# Altium footprint library PcbLib.PcbLib: 15 footprints
Each footprint in its own frame and in the unit in brackets; x right, y up, seen from the top. Pads: shape width x height; smd on the part's side, far side on the other; paste and mask are expansions set on the pad; w line width, h text height; cw(c..) or ccw(c..) is an arc to the next point about the centre after c.
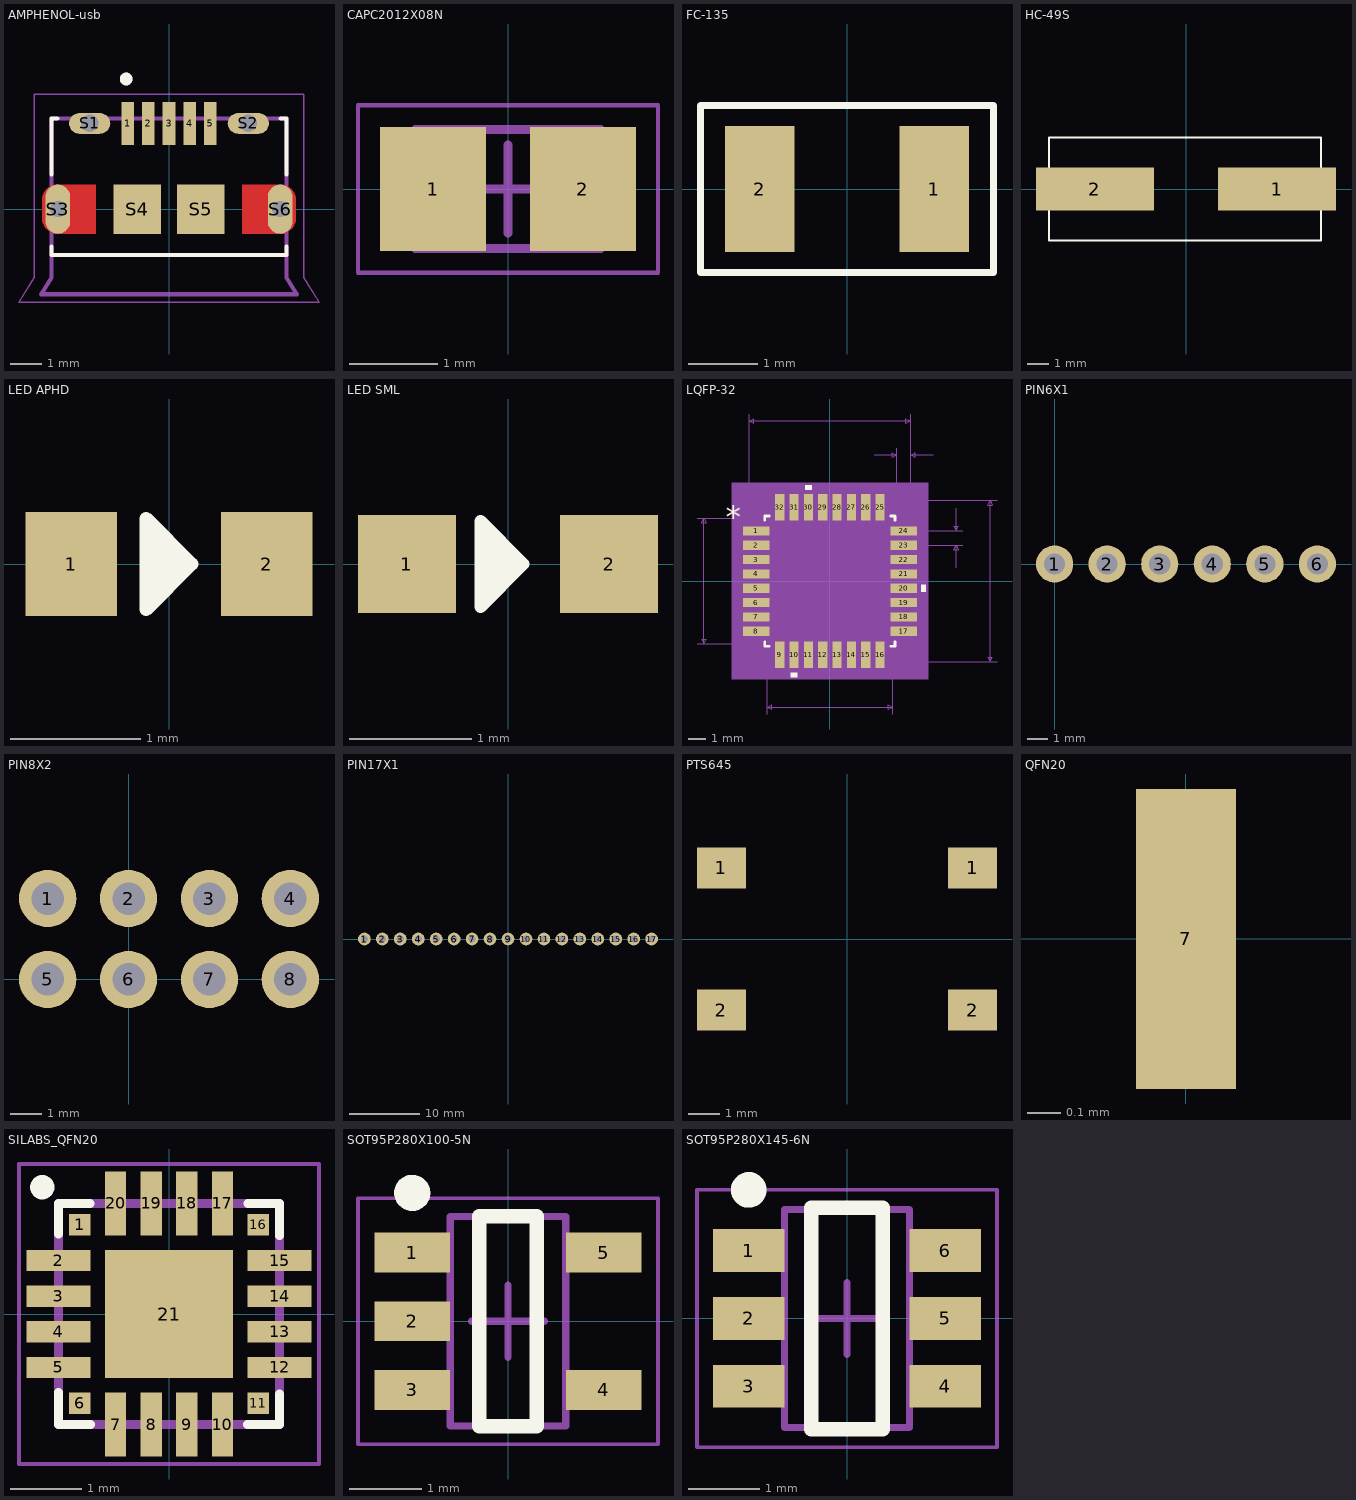
[diagram p0: the footprints below, top view; thin cyan lines are the x and y axes]

## AMPHENOL-usb [mm]
pads (11):
  rect 0.4x1.35 smd: 1(-1.3,2.7) 2(-0.65,2.7) 3(0,2.7) 4(0.65,2.7) 5(1.3,2.7)
  oval 1.3x0.65 hole 0.55: S1(-2.5,2.7) S2(2.5,2.7)
  oval 0.775x1.55 hole 0.5: S3(-3.5,0) S6(3.5,0)
  rect 1.5x1.55 smd: S4(-1,0) S5(1,0)
Top Layer:
  region: -3.5,0.775 -3.5,0.575 -3.493,0.575 -3.48,0.574 -3.467,0.573 -3.454,0.571 -3.442,0.568 -3.429,0.565 -3.417,0.561 -3.404,0.556 -3.392,0.551 -3.381,0.545 -3.369,0.538 -3.358,0.531 -3.348,0.523 -3.338,0.515 -3.328,0.506 -3.319,0.497 -3.31,0.487 -3.302,0.477 -3.294,0.467 -3.287,0.456 -3.28,0.444 -3.274,0.433 -3.269,0.421 -3.264,0.408 -3.26,0.396 -3.257,0.383 -3.254,0.371 -3.252,0.358 -3.251,0.345 -3.25,0.332 -3.25,0.325 -3.25,-0.325 -3.25,-0.332 -3.251,-0.345 -3.252,-0.358 -3.254,-0.371 -3.257,-0.383 -3.26,-0.396 -3.264,-0.408 -3.269,-0.421 -3.274,-0.433 -3.28,-0.444 -3.287,-0.456 -3.294,-0.467 -3.302,-0.477 -3.31,-0.487 -3.319,-0.497 -3.328,-0.506 -3.338,-0.515 -3.348,-0.523 -3.358,-0.531 -3.369,-0.538 -3.381,-0.545 -3.392,-0.551 -3.404,-0.556 -3.417,-0.561 -3.429,-0.565 -3.442,-0.568 -3.454,-0.571 -3.467,-0.573 -3.48,-0.574 -3.493,-0.575 -3.5,-0.575 -3.5,-0.775 -2.3,-0.775 -2.3,0.775
  region: -3.5,0.775 -3.5,0.575 -3.507,0.575 -3.52,0.574 -3.533,0.573 -3.546,0.571 -3.558,0.568 -3.571,0.565 -3.583,0.561 -3.596,0.556 -3.608,0.551 -3.619,0.545 -3.631,0.538 -3.642,0.531 -3.652,0.523 -3.662,0.515 -3.672,0.506 -3.681,0.497 -3.69,0.487 -3.698,0.477 -3.706,0.467 -3.713,0.456 -3.72,0.444 -3.726,0.433 -3.731,0.421 -3.736,0.408 -3.74,0.396 -3.743,0.383 -3.746,0.371 -3.748,0.358 -3.749,0.345 -3.75,0.332 -3.75,0.325 -3.75,-0.325 -3.75,-0.332 -3.749,-0.345 -3.748,-0.358 -3.746,-0.371 -3.743,-0.383 -3.74,-0.396 -3.736,-0.408 -3.731,-0.421 -3.726,-0.433 -3.72,-0.444 -3.713,-0.456 -3.706,-0.467 -3.698,-0.477 -3.69,-0.487 -3.681,-0.497 -3.672,-0.506 -3.662,-0.515 -3.652,-0.523 -3.642,-0.531 -3.631,-0.538 -3.619,-0.545 -3.608,-0.551 -3.596,-0.556 -3.583,-0.561 -3.571,-0.565 -3.558,-0.568 -3.546,-0.571 -3.533,-0.573 -3.52,-0.574 -3.507,-0.575 -3.5,-0.575 -3.5,-0.775 -3.513,-0.775 -3.539,-0.774 -3.565,-0.771 -3.591,-0.767 -3.617,-0.761 -3.642,-0.755 -3.667,-0.746 -3.691,-0.737 -3.715,-0.726 -3.739,-0.715 -3.761,-0.701 -3.783,-0.687 -3.804,-0.672 -3.825,-0.655 -3.844,-0.638 -3.863,-0.619 -3.88,-0.6 -3.897,-0.579 -3.912,-0.558 -3.926,-0.536 -3.94,-0.514 -3.951,-0.49 -3.962,-0.466 -3.971,-0.442 -3.98,-0.417 -3.986,-0.392 -3.992,-0.366 -3.996,-0.34 -3.999,-0.314 -4,-0.288 -4,-0.275 -4,0.275 -4,0.288 -3.999,0.314 -3.996,0.34 -3.992,0.366 -3.986,0.392 -3.98,0.417 -3.971,0.442 -3.962,0.466 -3.951,0.49 -3.94,0.514 -3.926,0.536 -3.912,0.558 -3.897,0.579 -3.88,0.6 -3.863,0.619 -3.844,0.638 -3.825,0.655 -3.804,0.672 -3.783,0.687 -3.761,0.701 -3.739,0.715 -3.715,0.726 -3.691,0.737 -3.667,0.746 -3.642,0.755 -3.617,0.761 -3.591,0.767 -3.565,0.771 -3.539,0.774 -3.513,0.775
  region: 3.5,-0.775 3.5,-0.575 3.493,-0.575 3.48,-0.574 3.467,-0.573 3.454,-0.571 3.442,-0.568 3.429,-0.565 3.417,-0.561 3.404,-0.556 3.392,-0.551 3.381,-0.545 3.369,-0.538 3.358,-0.531 3.348,-0.523 3.338,-0.515 3.328,-0.506 3.319,-0.497 3.31,-0.487 3.302,-0.477 3.294,-0.467 3.287,-0.456 3.28,-0.444 3.274,-0.433 3.269,-0.421 3.264,-0.408 3.26,-0.396 3.257,-0.383 3.254,-0.371 3.252,-0.358 3.251,-0.345 3.25,-0.332 3.25,-0.325 3.25,0.325 3.25,0.332 3.251,0.345 3.252,0.358 3.254,0.371 3.257,0.383 3.26,0.396 3.264,0.408 3.269,0.421 3.274,0.433 3.28,0.444 3.287,0.456 3.294,0.467 3.302,0.477 3.31,0.487 3.319,0.497 3.328,0.506 3.338,0.515 3.348,0.523 3.358,0.531 3.369,0.538 3.381,0.545 3.392,0.551 3.404,0.556 3.417,0.561 3.429,0.565 3.442,0.568 3.454,0.571 3.467,0.573 3.48,0.574 3.493,0.575 3.5,0.575 3.5,0.775 2.3,0.775 2.3,-0.775
  region: 3.5,-0.775 3.5,-0.575 3.507,-0.575 3.52,-0.574 3.533,-0.573 3.546,-0.571 3.558,-0.568 3.571,-0.565 3.583,-0.561 3.596,-0.556 3.608,-0.551 3.619,-0.545 3.631,-0.538 3.642,-0.531 3.652,-0.523 3.662,-0.515 3.672,-0.506 3.681,-0.497 3.69,-0.487 3.698,-0.477 3.706,-0.467 3.713,-0.456 3.72,-0.444 3.726,-0.433 3.731,-0.421 3.736,-0.408 3.74,-0.396 3.743,-0.383 3.746,-0.371 3.748,-0.358 3.749,-0.345 3.75,-0.332 3.75,-0.325 3.75,0.325 3.75,0.332 3.749,0.345 3.748,0.358 3.746,0.371 3.743,0.383 3.74,0.396 3.736,0.408 3.731,0.421 3.726,0.433 3.72,0.444 3.713,0.456 3.706,0.467 3.698,0.477 3.69,0.487 3.681,0.497 3.672,0.506 3.662,0.515 3.652,0.523 3.642,0.531 3.631,0.538 3.619,0.545 3.608,0.551 3.596,0.556 3.583,0.561 3.571,0.565 3.558,0.568 3.546,0.571 3.533,0.573 3.52,0.574 3.507,0.575 3.5,0.575 3.5,0.775 3.513,0.775 3.539,0.774 3.565,0.771 3.591,0.767 3.617,0.761 3.642,0.755 3.667,0.746 3.691,0.737 3.715,0.726 3.739,0.715 3.761,0.701 3.783,0.687 3.804,0.672 3.825,0.655 3.844,0.638 3.863,0.619 3.88,0.6 3.897,0.579 3.912,0.558 3.926,0.536 3.94,0.514 3.951,0.49 3.962,0.466 3.971,0.442 3.98,0.417 3.986,0.392 3.992,0.366 3.996,0.34 3.999,0.314 4,0.288 4,0.275 4,-0.275 4,-0.288 3.999,-0.314 3.996,-0.34 3.992,-0.366 3.986,-0.392 3.98,-0.417 3.971,-0.442 3.962,-0.466 3.951,-0.49 3.94,-0.514 3.926,-0.536 3.912,-0.558 3.897,-0.579 3.88,-0.6 3.863,-0.619 3.844,-0.638 3.825,-0.655 3.804,-0.672 3.783,-0.687 3.761,-0.701 3.739,-0.715 3.715,-0.726 3.691,-0.737 3.667,-0.746 3.642,-0.755 3.617,-0.761 3.591,-0.767 3.565,-0.771 3.539,-0.774 3.513,-0.775
  lines w0: -3.5,0.6 -3.5,0.77 ; 3.5,-0.77 3.5,-0.6
Top Overlay:
  circle w0.2: c-1.35,4.1 r0.1
  lines w0.127: -3.7,-1.18 -3.7,-1.45 3.7,-1.45 3.7,-1.18 ; -3.7,1.095 -3.7,2.85 -3.52,2.85 ; 3.52,2.85 3.7,2.85 3.7,1.095
Top Paste:
  drawing of 6 lines, arcs and shapes, not listed
Top Solder:
  region: -3.6,0.875 -2.2,0.875 -2.2,-0.875 -3.6,-0.875 -3.613,-0.875 -3.639,-0.874 -3.665,-0.871 -3.691,-0.867 -3.717,-0.861 -3.742,-0.855 -3.767,-0.846 -3.791,-0.837 -3.815,-0.826 -3.839,-0.815 -3.861,-0.801 -3.883,-0.787 -3.904,-0.772 -3.925,-0.755 -3.944,-0.738 -3.963,-0.719 -3.98,-0.7 -3.997,-0.679 -4.012,-0.658 -4.026,-0.636 -4.04,-0.614 -4.051,-0.59 -4.062,-0.566 -4.071,-0.542 -4.08,-0.517 -4.086,-0.492 -4.092,-0.466 -4.096,-0.44 -4.099,-0.414 -4.1,-0.388 -4.1,-0.375 -4.1,0.375 -4.1,0.388 -4.099,0.414 -4.096,0.44 -4.092,0.466 -4.086,0.492 -4.08,0.517 -4.071,0.542 -4.062,0.566 -4.051,0.59 -4.04,0.614 -4.026,0.636 -4.012,0.658 -3.997,0.679 -3.98,0.7 -3.963,0.719 -3.944,0.738 -3.925,0.755 -3.904,0.772 -3.883,0.787 -3.861,0.801 -3.839,0.815 -3.815,0.826 -3.791,0.837 -3.767,0.846 -3.742,0.855 -3.717,0.861 -3.691,0.867 -3.665,0.871 -3.639,0.874 -3.613,0.875
  region: 3.6,-0.875 2.2,-0.875 2.2,0.875 3.6,0.875 3.613,0.875 3.639,0.874 3.665,0.871 3.691,0.867 3.717,0.861 3.742,0.855 3.767,0.846 3.791,0.837 3.815,0.826 3.839,0.815 3.861,0.801 3.883,0.787 3.904,0.772 3.925,0.755 3.944,0.738 3.963,0.719 3.98,0.7 3.997,0.679 4.012,0.658 4.026,0.636 4.04,0.614 4.051,0.59 4.062,0.566 4.071,0.542 4.08,0.517 4.086,0.492 4.092,0.466 4.096,0.44 4.099,0.414 4.1,0.388 4.1,0.375 4.1,-0.375 4.1,-0.388 4.099,-0.414 4.096,-0.44 4.092,-0.466 4.086,-0.492 4.08,-0.517 4.071,-0.542 4.062,-0.566 4.051,-0.59 4.04,-0.614 4.026,-0.636 4.012,-0.658 3.997,-0.679 3.98,-0.7 3.963,-0.719 3.944,-0.738 3.925,-0.755 3.904,-0.772 3.883,-0.787 3.861,-0.801 3.839,-0.815 3.815,-0.826 3.791,-0.837 3.767,-0.846 3.742,-0.855 3.717,-0.861 3.691,-0.867 3.665,-0.871 3.639,-0.874 3.613,-0.875
Mechanical 1:
  lines w0: -3.75,-0.325 ccw(c-3.5,-0.325) -3.25,-0.325 -3.25,0.325 ccw(c-3.5,0.325) -3.75,0.325 -3.75,-0.325 ; -2.65,2.425 cw(c-2.65,2.7) -2.65,2.975 -2.35,2.975 cw(c-2.35,2.7) -2.35,2.425 -2.65,2.425 ; 2.35,2.425 cw(c2.35,2.7) 2.35,2.975 2.65,2.975 cw(c2.65,2.7) 2.65,2.425 2.35,2.425 ; 3.25,-0.325 ccw(c3.5,-0.325) 3.75,-0.325 3.75,0.325 ccw(c3.5,0.325) 3.25,0.325 3.25,-0.325
Mechanical 4:
  circle w0.2: c-1.35,4.1 r0.1
  circle w0.2: c-1.35,4.1 r0.1
  lines w0.127: -4.025,-2.68 -3.7,-2.15 ; -4.025,-2.68 4.025,-2.68 ; -4.025,-2.68 -3.7,-2.15 ; -4.025,-2.68 4.025,-2.68 ; -3.7,-2.15 -3.7,-1.45 ; -3.7,-2.15 -3.7,-1.45 ; -3.7,-1.45 3.7,-1.45 ; -3.7,-1.45 -3.7,2.85 ; -3.7,-1.45 3.7,-1.45 ; -3.7,-1.45 -3.7,2.85 ; -3.7,2.85 3.7,2.85 ; -3.7,2.85 3.7,2.85 ; 3.7,-2.15 4.025,-2.68 ; 3.7,-2.15 3.7,-1.45 ; 3.7,-2.15 4.025,-2.68 ; 3.7,-2.15 3.7,-1.45 ; 3.7,-1.45 3.7,2.85 ; 3.7,-1.45 3.7,2.85
  text "PCB END" at -1.95,-2.35 h1.88
  text "PCB END" at -1.95,-2.35 h1.88
Mechanical 16:
  lines w0.05: -4.725,-2.93 4.725,-2.93 4.25,-2.15 4.25,3.625 -4.25,3.625 -4.25,-2.15 -4.725,-2.93

## CAPC2012X08N [mm] "Chip Capacitor, 2-Leads, Body 2,00x1,25mm, IPC Medium Density"
height 0.75
pads (2):
  rect 1.2x1.4 smd: 1(-0.85,0) 2(0.85,0)
Mechanical 13:
  lines w0.1: -1.05,-0.675 -1.05,0.675 1.05,0.675 1.05,-0.675 -1.05,-0.675
Mechanical 15:
  lines w0.05: -1.7,-0.95 -1.7,0.95 1.7,0.95 1.7,-0.95 -1.7,-0.95
  lines w0.1: -0.5,0 0.5,0 ; 0,-0.5 0,0.5
3D body "CAPC2012X08N.step": height 0.75, standoff 0, extent -1.05,-0.675 1.05,0.675

## FC-135 [mm] "FC-135"
pads (2):
  rect 1x1.8 smd: 1(1.25,0) 2(-1.25,0)
Top Overlay:
  lines w0.1: -2.1,-1.2 -2.1,1.2 2.1,1.2 2.1,-1.2 -2.1,-1.2

## HC-49S [mm] "HC-49S"
pads (2):
  rect 5.5x2 smd: 1(4.25,0) 2(-4.25,0)
Top Overlay:
  lines w0.1: -6.4,-2.4 -6.4,2.4 6.3,2.4 6.3,-2.4 -6.4,-2.4

## LED APHD [mm]
pads (2):
  rect 0.7x0.8 smd: 1(-0.75,0) 2(0.75,0)
Top Overlay:
  region: 0.175,0
  region: -0.175,-0.2 -0.175,0.35 0.175,0 -0.175,-0.35
  lines w0.1: -0.175,-0.35 -0.175,-0.35 ; -0.175,-0.35 0.175,0 ; -0.175,-0.35 -0.175,0.35 0.175,0 ; 0.175,0 0.175,0
3D body "APHD1608.STEP": height 0.5, standoff -0.18, extent -0.8,-0.4 0.8,0.4

## LED SML [mm]
pads (2):
  rect 0.8x0.8 smd: 1(-0.825,0) 2(0.825,0)
Top Overlay:
  region: -0.225,-0.2 -0.225,0.35 0.125,0 -0.225,-0.35
  region: 0.125,0
  lines w0.1: -0.225,-0.35 -0.225,0.35 0.125,0 ; -0.225,-0.35 0.125,0 ; -0.225,-0.35 -0.225,-0.35 ; 0.125,0 0.125,0
3D body "APHD1608.STEP": height 0.5, standoff -0.18, extent -0.775,-0.4 0.825,0.4

## LQFP-32 [mil]
pads (32):
  rect 58x20 smd paste+0 mask+0: 1(-162,110.24) 2(-162,78.74) 3(-162,47.24) 4(-162,15.75) 5(-162,-15.75) 6(-162,-47.24) 7(-162,-78.74) 8(-162,-110.24) 17(162,-110.24) 18(162,-78.74) 19(162,-47.24) 20(162,-15.75) 21(162,15.75) 22(162,47.24) 23(162,78.74) 24(162,110.24)
  rect 20x58 smd paste+0 mask+0: 9(-110.24,-162) 10(-78.74,-162) 11(-47.24,-162) 12(-15.75,-162) 13(15.75,-162) 14(47.24,-162) 15(78.74,-162) 16(110.24,-162) 25(110.24,162) 26(78.74,162) 27(47.24,162) 28(15.75,162) 29(-15.75,162) 30(-47.24,162) 31(-78.74,162) 32(-110.24,162)
Top Overlay:
  region: -71.24,-201 -86.24,-201 -86.24,-211 -71.24,-211
  region: 201,-8.25 211,-8.25 211,-23.25 201,-23.25
  region: -39.74,201 -54.74,201 -54.74,211 -39.74,211
  lines w6: -143,-133.34 -143,-143 -133.34,-143 ; -143,133.34 -143,143 -133.34,143 ; 133.34,-143 143,-143 143,-133.34 ; 133.34,143 143,143 143,133.34
  text "*" at -228.5,115.98 h50
Mechanical 5:
  region: 216,-216 -216,-216 -216,216 216,216
Mechanical 7:
  lines w1: -292,-138 -110.24,-138 ; -292,138 -110.24,138 ; -177,110.24 -177,367 ; -138,-292 -138,-110.24 ; 97,277 147,277 ; 110.24,-177 367,-177 ; 110.24,177 367,177 ; 138,-292 138,-110.24 ; 147,110.24 147,292 ; 162,78.74 292,78.74 ; 162,110.24 292,110.24 ; 177,292 177,110.24 177,367 ; 227,277 177,277 ; 277,28.74 277,78.74 ; 277,160.24 277,110.24 ; -277,-138 -277,138 ; -277,-138 -282,-128 -272,-128 -277,-138 ; -277,138 -282,128 -272,128 -277,138 ; -177,352 177,352 ; -177,352 -167,357 -167,347 -177,352 ; -138,-277 138,-277 ; -138,-277 -128,-272 -128,-282 -138,-277 ; 138,-277 128,-272 128,-282 138,-277 ; 147,277 137,282 137,272 147,277 ; 177,277 187,282 187,272 177,277 ; 177,352 167,357 167,347 177,352 ; 277,78.74 272,68.74 282,68.74 277,78.74 ; 277,110.24 272,120.24 282,120.24 277,110.24 ; 352,-177 352,177 ; 352,-177 347,-167 357,-167 352,-177 ; 352,177 347,167 357,167 352,177
  text "Default Horiz Padstyle: RX20Y58D0T" at -425,-427 h50
  text "Default Vert Padstyle: RX20Y58D0T" at -412.5,-487 h50
  text "Alt 1 Padstyle: OX60Y90D30P" at -337.5,-667 h50
  text "Alt 2 Padstyle: OX90Y60D30P" at -337.5,-727 h50
  text "0.031in/0.8mm" at 297,81.99 h25
  text "0.03in/0.762mm" at 74.5,297 h25
  text "0.354in/8.992mm" at -93.75,372 h25
  text "0.276in/7.01mm" at -87.5,-322 h25
  text "0.276in/7.01mm" at -472,-12.5 h25
  text "0.354in/8.992mm" at 372,-12.5 h25
Mechanical 13:
  lines w1: -138,88 -88,138 ; -177,-119.24 -177,-101.24 -138,-101.24 -138,-119.24 -177,-119.24 ; -177,-87.74 -177,-69.74 -138,-69.74 -138,-87.74 -177,-87.74 ; -177,-56.24 -177,-38.24 -138,-38.24 -138,-56.24 -177,-56.24 ; -177,-24.75 -177,-6.75 -138,-6.75 -138,-24.75 -177,-24.75 ; -177,6.75 -177,24.75 -138,24.75 -138,6.75 -177,6.75 ; -177,38.24 -177,56.24 -138,56.24 -138,38.24 -177,38.24 ; -177,69.74 -177,87.74 -138,87.74 -138,69.74 -177,69.74 ; -177,101.24 -177,119.24 -138,119.24 -138,101.24 -177,101.24 ; -138,-138 138,-138 138,138 -138,138 -138,-138 ; -119.24,-177 -119.24,-138 -101.24,-138 -101.24,-177 -119.24,-177 ; -119.24,138 -101.24,138 -101.24,177 -119.24,177 -119.24,138 ; -87.74,-177 -87.74,-138 -69.74,-138 -69.74,-177 -87.74,-177 ; -87.74,138 -69.74,138 -69.74,177 -87.74,177 -87.74,138 ; -56.24,-177 -56.24,-138 -38.24,-138 -38.24,-177 -56.24,-177 ; -56.24,138 -38.24,138 -38.24,177 -56.24,177 -56.24,138 ; -24.75,-177 -24.75,-138 -6.75,-138 -6.75,-177 -24.75,-177 ; -24.75,138 -6.75,138 -6.75,177 -24.75,177 -24.75,138 ; 6.75,-177 6.75,-138 24.75,-138 24.75,-177 6.75,-177 ; 6.75,138 24.75,138 24.75,177 6.75,177 6.75,138 ; 38.24,-177 38.24,-138 56.24,-138 56.24,-177 38.24,-177 ; 38.24,138 56.24,138 56.24,177 38.24,177 38.24,138 ; 69.74,-177 69.74,-138 87.74,-138 87.74,-177 69.74,-177 ; 69.74,138 87.74,138 87.74,177 69.74,177 69.74,138 ; 101.24,-177 101.24,-138 119.24,-138 119.24,-177 101.24,-177 ; 101.24,138 119.24,138 119.24,177 101.24,177 101.24,138 ; 138,-119.24 138,-101.24 177,-101.24 177,-119.24 138,-119.24 ; 138,-87.74 138,-69.74 177,-69.74 177,-87.74 138,-87.74 ; 138,-56.24 138,-38.24 177,-38.24 177,-56.24 138,-56.24 ; 138,-24.75 138,-6.75 177,-6.75 177,-24.75 138,-24.75 ; 138,6.75 138,24.75 177,24.75 177,6.75 138,6.75 ; 138,38.24 138,56.24 177,56.24 177,38.24 138,38.24 ; 138,69.74 138,87.74 177,87.74 177,69.74 138,69.74 ; 138,101.24 138,119.24 177,119.24 177,101.24 138,101.24
  text "*" at -135.5,100.98 h50
Mechanical 15:
  region: -130.24,-148 -148,-148 -148,-130.24 -201,-130.24 -201,130.24 -148,130.24 -148,148 -130.24,148 -130.24,201 130.24,201 130.24,148 148,148 148,130.24 201,130.24 201,-130.24 148,-130.24 148,-148 130.24,-148 130.24,-201 -130.24,-201
  lines w6: -201,-130.24 -148,-130.24 -148,-148 -130.24,-148 -130.24,-201 130.24,-201 130.24,-148 148,-148 148,-130.24 201,-130.24 201,130.24 148,130.24 148,148 130.24,148 130.24,201 -130.24,201 -130.24,148 -148,148 -148,130.24 -201,130.24 -201,-130.24
3D body: height 10, standoff 0, extent 0,0 10,10

## PIN6X1 [mm]
pads (6):
  round 1.8 hole 1.02: 1(0,0) 2(2.54,0) 3(5.08,0) 4(7.62,0) 5(10.16,0) 6(12.7,0)

## PIN8X2 [mm]
pads (8):
  round 1.8 hole 1.02: 1(-2.54,2.54) 2(0,2.54) 3(2.54,2.54) 4(5.08,2.54) 5(-2.54,0) 6(0,0) 7(2.54,0) 8(5.08,0)

## PIN17X1 [mm]
pads (17):
  round 1.8 hole 1.02: 1(-20.32,0) 2(-17.78,0) 3(-15.24,0) 4(-12.7,0) 5(-10.16,0) 6(-7.62,0) 7(-5.08,0) 8(-2.54,0) 9(0,0) 10(2.54,0) 11(5.08,0) 12(7.62,0) 13(10.16,0) 14(12.7,0) 15(15.24,0) 16(17.78,0) 17(20.32,0)

## PTS645 [mm]
pads (4):
  rect 1.55x1.3 smd: 1(-3.975,2.25) 1(3.975,2.25) 2(-3.975,-2.25) 2(3.975,-2.25)

## QFN20 [mm]
pads (1):
  rect 0.3x0.9 smd: 7(0,0)

## SILABS_QFN20 [mm]
pads (21):
  rect 0.3x0.3 smd: 1(-1.25,1.25) 6(-1.25,-1.25) 11(1.25,-1.25) 16(1.25,1.25)
  rect 0.9x0.3 smd: 2(-1.55,0.75) 3(-1.55,0.25) 4(-1.55,-0.25) 5(-1.55,-0.75) 12(1.55,-0.75) 13(1.55,-0.25) 14(1.55,0.25) 15(1.55,0.75)
  rect 0.3x0.9 smd: 7(-0.75,-1.55) 8(-0.25,-1.55) 9(0.25,-1.55) 10(0.75,-1.55) 17(0.75,1.55) 18(0.25,1.55) 19(-0.25,1.55) 20(-0.75,1.55)
  rect 1.8x1.8 smd: 21(0,0)
Top Overlay:
  circle w0.2: c-1.778,1.778 r0.07
  lines w0.127: -1.55,-1.1 -1.55,-1.55 -1.1,-1.55 ; -1.55,1.12 -1.55,1.55 -1.11,1.55 ; 1.1,-1.55 1.55,-1.55 1.55,-1.12 ; 1.11,1.55 1.55,1.55 1.55,1.1
Mechanical 4:
  lines w0.127: -1.55,-1.55 -1.55,1.55 ; -1.55,-1.55 1.55,-1.55 ; -1.55,-1.55 -1.55,1.55 ; -1.55,-1.55 1.55,-1.55 ; -1.55,1.55 1.55,1.55 ; -1.55,1.55 1.55,1.55 ; 1.55,-1.55 1.55,1.55 ; 1.55,-1.55 1.55,1.55
Mechanical 16:
  lines w0.05: -2.104,-2.104 -2.104,2.104 2.104,2.104 2.104,-2.104 -2.104,-2.104

## SOT95P280X100-5N [mm] "SOT23, 5-Leads, Body 2,90x2,80mm, Pitch 0,95mm, IPC Medium Density"
height 1
pads (5):
  rect 1.05x0.55 smd: 1(-1.325,0.95) 2(-1.325,0) 3(-1.325,-0.95) 4(1.325,-0.95) 5(1.325,0.95)
Top Overlay:
  circle w0.25: c-1.325,1.775 r0.125
  lines w0.2: -0.4,-1.45 0.4,-1.45 0.4,1.45 -0.4,1.45 -0.4,-1.45
Mechanical 13:
  lines w0.1: -0.8,-1.45 -0.8,1.45 0.8,1.45 0.8,-1.45 -0.8,-1.45
Mechanical 15:
  lines w0.05: -2.075,-1.7 -2.075,1.7 2.075,1.7 2.075,-1.7 -2.075,-1.7
  lines w0.1: -0.5,0 0.5,0 ; 0,-0.5 0,0.5
3D body "SOT95P280X100-5N.step": height 1, standoff 0, extent -1.4,-1.45 1.4,1.45

## SOT95P280X145-6N [mm] "SOT23, 6-Leads, Body 2,93x2,80mm, Pitch 0,95mm, IPC Medium Density"
height 1.45
pads (6):
  rect 1x0.6 smd: 1(-1.375,0.95) 2(-1.375,0) 3(-1.375,-0.95) 4(1.375,-0.95) 5(1.375,0) 6(1.375,0.95)
Top Overlay:
  circle w0.25: c-1.375,1.8 r0.125
  lines w0.2: -0.5,-1.55 0.5,-1.55 0.5,1.55 -0.5,1.55 -0.5,-1.55
Mechanical 13:
  lines w0.1: -0.875,-1.525 -0.875,1.525 0.875,1.525 0.875,-1.525 -0.875,-1.525
Mechanical 15:
  lines w0.05: -2.1,-1.8 -2.1,1.8 2.1,1.8 2.1,-1.8 -2.1,-1.8
  lines w0.1: -0.5,0 0.5,0 ; 0,-0.5 0,0.5
3D body "SOT95P280X145-6N.step": height 1.45, standoff 0, extent -1.6,-1.525 1.6,1.525